# Altium schematic symbol library CC0805KRX7R9BB201.SchLib: 2 symbols
Pins are listed as number, name and electrical type; pins without a type are passive.

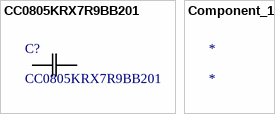
[diagram p0: symbols CC0805KRX7R9BB201 to Component_1]

## CC0805KRX7R9BB201
designator C?
No Description Available; Mfr_Name: Yageo; Type: DEV; Copyright: Copyright (C) 2023 Ultra Librarian. All rights reserved.; Manufacturer_Part_Number: CC0805KRX7R9BB201; RefDes: RefDes
footprint CAP_CC0805_YAG
pins: 1, 2

## Component_1
designator *